# EAGLE library part 12WAY (library Phoenix-Contact)
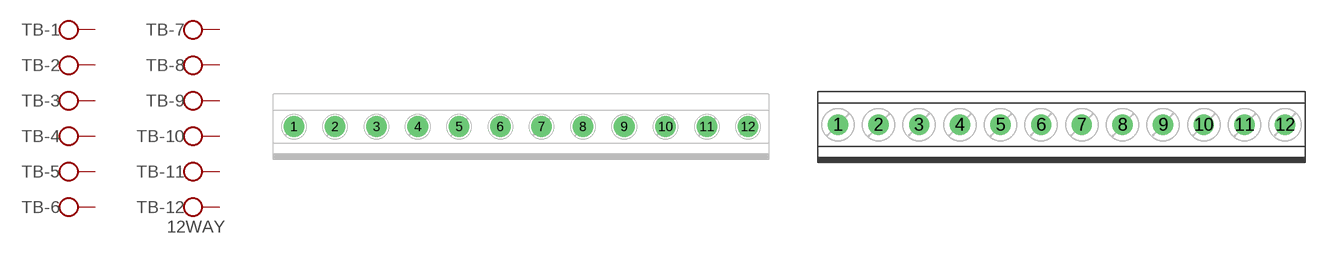
[diagram p0: symbol with the pads of MKDSN12_5.08; footprints MKDSN12_5.08, MKDS12_3.81]

Designator prefix TB; gates -1=KL -2=KL -3=KL -4=KL -5=KL -6=KL -7=KL -8=KL -9=KL -10=KL -11=KL -12=KL+V

## 12WAY5.08  [MKDSN12_5.08]
1  -1:KL  pas
2  -2:KL  pas
3  -3:KL  pas
4  -4:KL  pas
5  -5:KL  pas
6  -6:KL  pas
7  -7:KL  pas
8  -8:KL  pas
9  -9:KL  pas
10  -10:KL  pas
11  -11:KL  pas
12  -12:KL  pas

## 12WAY3.81  [MKDS12_3.81]
Pads as for MKDSN12_5.08

## Footprint MKDSN12_5.08 (pad centres in mm)
Phoenix Contact MKDSN 5.08mm
drill 1.3 pad 2.54 round: 1 0,0; 2 5.08,0; 3 10.16,0; 4 15.24,0; 5 20.32,0; 6 25.4,0; 7 30.48,0; 8 35.56,0; 9 40.64,0; 10 45.72,0; 11 50.8,0; 12 55.88,0

## Footprint MKDS12_3.81 (pad centres in mm)
Phoenix Contact MKDS 3.81mm
drill 1.1 pad 1.905 round: 1 0,0; 2 3.81,0; 3 7.62,0; 4 11.43,0; 5 15.24,0; 6 19.05,0; 7 22.86,0; 8 26.67,0; 9 30.48,0; 10 34.29,0; 11 38.1,0; 12 41.91,0